# Altium integrated library Analog Devices Amplifiers and Linear Voltage References.IntLib: 547 symbols (part 16 of 20)
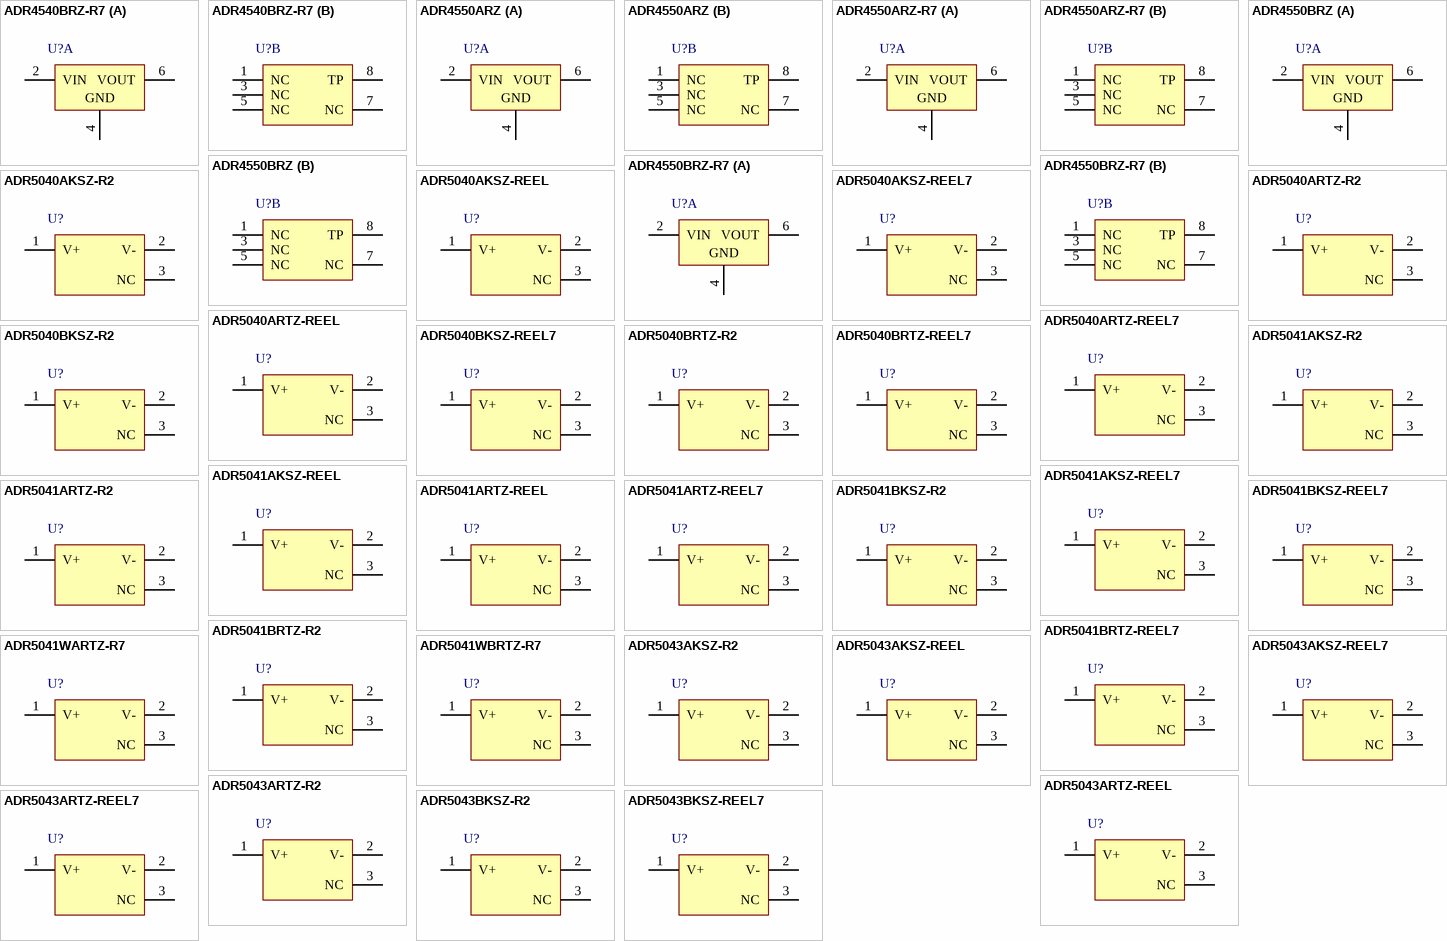
[diagram p35: symbols ADR4540BRZ-R7 to ADR5043BKSZ-REEL7]

## ADR5041BRTZ-REEL7
designator U?
Precision Micropower Shunt Mode Voltage Reference, 2.5 V Output, Industrial, 3-pin SOT23 (RT-3), Reel; Manufacturer: Analog Devices; PartNumber: ADR5041BRTZ-REEL7; DatasheetVersion: Rev. B; PackageVersion: 011909-C, 02/2009; PackageReference: RT-3; PackageDescription: 3-Pin Small Outline Transistor Package, Body 2.9 x 1.3 mm, Pitch 0.96 mm; Supplier 1: Digi-Key; Supplier Part Number 1: ADR5041BRTZ-REEL7-ND; Supplier 2: Mouser; Supplier Part Number 2: 584-ADR5041BRTZ-R7; Mounting Technology: Surface Mount; Code_JEDEC: TO-236-AB; ComponentLink1Description: Manufacturer URL; ComponentLink1URL: http://www.analog.com/en/index.html; ComponentLink2Description: Datasheet; ComponentLink2URL: http://www.analog.com/static/imported-files/data_sheets/ADR5040_5041_5043_5044_5045.pdf; ComponentLink3Description: Package Specification; ComponentLink3URL: http:/www.analog.com/static/imported-files/packages/PKG_PDF/SOT-23-3 (RT)/RT_3.pdf; ComponentLink4Description: URL Link1; ComponentLink4URL: Product URL:http://www.analog.com/en/special-linear-functions/voltage-references/adr5041/products/product.html
footprint ADI-RT-3_N (SOT23, 3-Leads, Body 2.9x1.3mm, Pitch 0.96mm, IPC Medium Density)
footprint ADI-RT-3_L (SOT23, 3-Leads, Body 2.9x1.3mm, Pitch 0.96mm, IPC High Density)
footprint ADI-RT-3_M (SOT23, 3-Leads, Body 2.9x1.3mm, Pitch 0.96mm, IPC Low Density)
pins: 1 V+ (power), 2 V- (power), 3 NC

## ADR5041WARTZ-R7
designator U?
Precision Micropower Shunt Mode Voltage Reference, 2.5 V Output, Automotive, 3-pin SOT23 (RT-3), Reel; Manufacturer: Analog Devices; PartNumber: ADR5041WARTZ-R7; DatasheetVersion: Rev. B; PackageVersion: 011909-C, 02/2009; PackageReference: RT-3; PackageDescription: 3-Pin Small Outline Transistor Package, Body 2.9 x 1.3 mm, Pitch 0.96 mm; Supplier 1: Digi-Key; Supplier Part Number 1: ADR5041WARTZ-R7TR-ND; Supplier 2: Digi-Key; Supplier Part Number 2: ADR5041WARTZ-R7CT-ND; Supplier 3: Digi-Key; Supplier Part Number 3: ADR5041WARTZ-R7DKR-ND; Supplier 4: Mouser; Supplier Part Number 4: 584-ADR5041WARTZ-R7; Mounting Technology: Surface Mount; Code_JEDEC: TO-236-AB; ComponentLink1Description: Manufacturer URL; ComponentLink1URL: http://www.analog.com/en/index.html; ComponentLink2Description: Datasheet; ComponentLink2URL: http://www.analog.com/static/imported-files/data_sheets/ADR5040_5041_5043_5044_5045.pdf; ComponentLink3Description: Package Specification; ComponentLink3URL: http:/www.analog.com/static/imported-files/packages/PKG_PDF/SOT-23-3 (RT)/RT_3.pdf; ComponentLink4Description: URL Link1; ComponentLink4URL: Product URL:http://www.analog.com/en/special-linear-functions/voltage-references/adr5041/products/product.html
footprint ADI-RT-3_N (SOT23, 3-Leads, Body 2.9x1.3mm, Pitch 0.96mm, IPC Medium Density)
footprint ADI-RT-3_L (SOT23, 3-Leads, Body 2.9x1.3mm, Pitch 0.96mm, IPC High Density)
footprint ADI-RT-3_M (SOT23, 3-Leads, Body 2.9x1.3mm, Pitch 0.96mm, IPC Low Density)
pins: 1 V+ (power), 2 V- (power), 3 NC

## ADR5041WBRTZ-R7
designator U?
Precision Micropower Shunt Mode Voltage Reference, 2.5 V Output, Automotive, 3-pin SOT23 (RT-3), Reel; Manufacturer: Analog Devices; PartNumber: ADR5041WBRTZ-R7; DatasheetVersion: Rev. B; PackageVersion: 011909-C, 02/2009; PackageReference: RT-3; PackageDescription: 3-Pin Small Outline Transistor Package, Body 2.9 x 1.3 mm, Pitch 0.96 mm; Supplier 1: Digi-Key; Supplier Part Number 1: ADR5041WBRTZ-R7TR-ND; Supplier 2: Digi-Key; Supplier Part Number 2: ADR5041WBRTZ-R7CT-ND; Supplier 3: Digi-Key; Supplier Part Number 3: ADR5041WBRTZ-R7DKR-ND; Supplier 4: Mouser; Supplier Part Number 4: 584-ADR5041WBRTZ-R7; Mounting Technology: Surface Mount; Code_JEDEC: TO-236-AB; ComponentLink1Description: Manufacturer URL; ComponentLink1URL: http://www.analog.com/en/index.html; ComponentLink2Description: Datasheet; ComponentLink2URL: http://www.analog.com/static/imported-files/data_sheets/ADR5040_5041_5043_5044_5045.pdf; ComponentLink3Description: Package Specification; ComponentLink3URL: http:/www.analog.com/static/imported-files/packages/PKG_PDF/SOT-23-3 (RT)/RT_3.pdf; ComponentLink4Description: URL Link1; ComponentLink4URL: Product URL:http://www.analog.com/en/special-linear-functions/voltage-references/adr5041/products/product.html
footprint ADI-RT-3_N (SOT23, 3-Leads, Body 2.9x1.3mm, Pitch 0.96mm, IPC Medium Density)
footprint ADI-RT-3_L (SOT23, 3-Leads, Body 2.9x1.3mm, Pitch 0.96mm, IPC High Density)
footprint ADI-RT-3_M (SOT23, 3-Leads, Body 2.9x1.3mm, Pitch 0.96mm, IPC Low Density)
pins: 1 V+ (power), 2 V- (power), 3 NC

## ADR5043AKSZ-R2
designator U?
Precision Micropower Shunt Mode Voltage Reference, 3 V Output, Industrial, 3-pin SOT23 (KS-3), Reel; Manufacturer: Analog Devices; PartNumber: ADR5043AKSZ-R2; DatasheetVersion: Rev. B; PackageVersion: 072809-A, 07/2009; PackageReference: KS-3; PackageDescription: 3-Pin Thin Shrink Small Outline Transistor Package, Body 2 x 1.25 mm, Pitch 0.65 mm; Supplier 1: Digi-Key; Supplier Part Number 1: ADR5043AKSZ-R2TR-ND; Supplier 2: Digi-Key; Supplier Part Number 2: ADR5043AKSZ-R2CT-ND; Supplier 3: Digi-Key; Supplier Part Number 3: ADR5043AKSZ-R2DKR-ND; Supplier 4: Mouser; Supplier Part Number 4: 584-ADR5043AKSZ-R2; Mounting Technology: Surface Mount; ComponentLink1Description: Manufacturer URL; ComponentLink1URL: http://www.analog.com/en/index.html; ComponentLink2Description: Datasheet; ComponentLink2URL: http://www.analog.com/static/imported-files/data_sheets/ADR5040_5041_5043_5044_5045.pdf; ComponentLink3Description: Package Specification; ComponentLink3URL: http:/www.analog.com/static/imported-files/packages/PKG_PDF/SC70(KS)/KS_3.pdf; ComponentLink4Description: URL Link1; ComponentLink4URL: Product URL:http://www.analog.com/en/special-linear-functions/voltage-references/adr5043/products/product.html
footprint ADI-KS-3_N (SOT23, 3-Leads, Body 2x1.25mm, Pitch 0.65mm, IPC Medium Density)
footprint ADI-KS-3_L (SOT23, 3-Leads, Body 2x1.25mm, Pitch 0.65mm, IPC High Density)
footprint ADI-KS-3_M (SOT23, 3-Leads, Body 2x1.25mm, Pitch 0.65mm, IPC Low Density)
pins: 1 V+ (power), 2 V- (power), 3 NC

## ADR5043AKSZ-REEL
designator U?
Precision Micropower Shunt Mode Voltage Reference, 3 V Output, Industrial, 3-pin SOT23 (KS-3), Reel; Manufacturer: Analog Devices; PartNumber: ADR5043AKSZ-REEL; DatasheetVersion: Rev. B; PackageVersion: 072809-A, 07/2009; PackageReference: KS-3; PackageDescription: 3-Pin Thin Shrink Small Outline Transistor Package, Body 2 x 1.25 mm, Pitch 0.65 mm; Supplier 1: Digi-Key; Supplier Part Number 1: ADR5043AKSZ-REEL-ND; Supplier 2: Mouser; Supplier Part Number 2: 584-ADR5043AKSZ-R; Mounting Technology: Surface Mount; ComponentLink1Description: Manufacturer URL; ComponentLink1URL: http://www.analog.com/en/index.html; ComponentLink2Description: Datasheet; ComponentLink2URL: http://www.analog.com/static/imported-files/data_sheets/ADR5040_5041_5043_5044_5045.pdf; ComponentLink3Description: Package Specification; ComponentLink3URL: http:/www.analog.com/static/imported-files/packages/PKG_PDF/SC70(KS)/KS_3.pdf; ComponentLink4Description: URL Link1; ComponentLink4URL: Product URL:http://www.analog.com/en/special-linear-functions/voltage-references/adr5043/products/product.html
footprint ADI-KS-3_N (SOT23, 3-Leads, Body 2x1.25mm, Pitch 0.65mm, IPC Medium Density)
footprint ADI-KS-3_L (SOT23, 3-Leads, Body 2x1.25mm, Pitch 0.65mm, IPC High Density)
footprint ADI-KS-3_M (SOT23, 3-Leads, Body 2x1.25mm, Pitch 0.65mm, IPC Low Density)
pins: 1 V+ (power), 2 V- (power), 3 NC

## ADR5043AKSZ-REEL7
designator U?
Precision Micropower Shunt Mode Voltage Reference, 3 V Output, Industrial, 3-pin SOT23 (KS-3), Reel; Manufacturer: Analog Devices; PartNumber: ADR5043AKSZ-REEL7; DatasheetVersion: Rev. B; PackageVersion: 072809-A, 07/2009; PackageReference: KS-3; PackageDescription: 3-Pin Thin Shrink Small Outline Transistor Package, Body 2 x 1.25 mm, Pitch 0.65 mm; Supplier 1: Digi-Key; Supplier Part Number 1: ADR5043AKSZ-REEL7-ND; Supplier 2: Mouser; Supplier Part Number 2: 584-ADR5043AKSZ-R7; Mounting Technology: Surface Mount; ComponentLink1Description: Manufacturer URL; ComponentLink1URL: http://www.analog.com/en/index.html; ComponentLink2Description: Datasheet; ComponentLink2URL: http://www.analog.com/static/imported-files/data_sheets/ADR5040_5041_5043_5044_5045.pdf; ComponentLink3Description: Package Specification; ComponentLink3URL: http:/www.analog.com/static/imported-files/packages/PKG_PDF/SC70(KS)/KS_3.pdf; ComponentLink4Description: URL Link1; ComponentLink4URL: Product URL:http://www.analog.com/en/special-linear-functions/voltage-references/adr5043/products/product.html
footprint ADI-KS-3_N (SOT23, 3-Leads, Body 2x1.25mm, Pitch 0.65mm, IPC Medium Density)
footprint ADI-KS-3_L (SOT23, 3-Leads, Body 2x1.25mm, Pitch 0.65mm, IPC High Density)
footprint ADI-KS-3_M (SOT23, 3-Leads, Body 2x1.25mm, Pitch 0.65mm, IPC Low Density)
pins: 1 V+ (power), 2 V- (power), 3 NC

## ADR5043ARTZ-R2
designator U?
Precision Micropower Shunt Mode Voltage Reference, 3 V Output, Industrial, 3-pin SOT23 (RT-3), Reel; Manufacturer: Analog Devices; PartNumber: ADR5043ARTZ-R2; Ref Out TC (ppm/C): 10; Vout: 3V; DatasheetVersion: Rev. B; PackageVersion: 011909-C, 02/2009; PackageReference: RT-3; PackageDescription: 3-Pin Small Outline Transistor Package, Body 2.9 x 1.3 mm, Pitch 0.96 mm; Supplier 1: Digi-Key; Supplier Part Number 1: ADR5043ARTZ-R2TR-ND; Supplier 2: Digi-Key; Supplier Part Number 2: ADR5043ARTZ-R2CT-ND; Supplier 3: Digi-Key; Supplier Part Number 3: ADR5043ARTZ-R2DKR-ND; Supplier 4: Newark; Supplier Part Number 4: 34M4892; Supplier 5: Mouser; Supplier Part Number 5: 584-ADR5043ARTZ-R2; Packing: Reel; Operating Temp Range: -40 to 125 degC; Mounting Technology: Surface Mount; Code_JEDEC: TO-236-AB; ComponentLink1Description: Manufacturer URL; ComponentLink1URL: http://www.analog.com/en/index.html; ComponentLink2Description: Datasheet; ComponentLink2URL: http://www.analog.com/static/imported-files/data_sheets/ADR5040_5041_5043_5044_5045.pdf; ComponentLink3Description: Package Specification; ComponentLink3URL: http:/www.analog.com/static/imported-files/packages/PKG_PDF/SOT-23-3 (RT)/RT_3.pdf; ComponentLink4Description: URL Link1; ComponentLink4URL: Product URL:http://www.analog.com/en/special-linear-functions/voltage-references/adr5043/products/product.html
footprint ADI-RT-3_N (SOT23, 3-Leads, Body 2.9x1.3mm, Pitch 0.96mm, IPC Medium Density)
footprint ADI-RT-3_L (SOT23, 3-Leads, Body 2.9x1.3mm, Pitch 0.96mm, IPC High Density)
footprint ADI-RT-3_M (SOT23, 3-Leads, Body 2.9x1.3mm, Pitch 0.96mm, IPC Low Density)
pins: 1 V+ (power), 2 V- (power), 3 NC

## ADR5043ARTZ-REEL
designator U?
Precision Micropower Shunt Mode Voltage Reference, 3 V Output, Industrial, 3-pin SOT23 (RT-3), Reel; Manufacturer: Analog Devices; PartNumber: ADR5043ARTZ-REEL; Ref Out TC (ppm/C): 10; Vout: 3V; DatasheetVersion: Rev. B; PackageVersion: 011909-C, 02/2009; PackageReference: RT-3; PackageDescription: 3-Pin Small Outline Transistor Package, Body 2.9 x 1.3 mm, Pitch 0.96 mm; Supplier 1: Digi-Key; Supplier Part Number 1: ADR5043ARTZ-REEL-ND; Supplier 2: Mouser; Supplier Part Number 2: 584-ADR5043ARTZ-R; Packing: Reel; Operating Temp Range: -40 to 125 degC; Mounting Technology: Surface Mount; Code_JEDEC: TO-236-AB; ComponentLink1Description: Manufacturer URL; ComponentLink1URL: http://www.analog.com/en/index.html; ComponentLink2Description: Datasheet; ComponentLink2URL: http://www.analog.com/static/imported-files/data_sheets/ADR5040_5041_5043_5044_5045.pdf; ComponentLink3Description: Package Specification; ComponentLink3URL: http:/www.analog.com/static/imported-files/packages/PKG_PDF/SOT-23-3 (RT)/RT_3.pdf; ComponentLink4Description: URL Link1; ComponentLink4URL: Product URL:http://www.analog.com/en/special-linear-functions/voltage-references/adr5043/products/product.html
footprint ADI-RT-3_N (SOT23, 3-Leads, Body 2.9x1.3mm, Pitch 0.96mm, IPC Medium Density)
footprint ADI-RT-3_L (SOT23, 3-Leads, Body 2.9x1.3mm, Pitch 0.96mm, IPC High Density)
footprint ADI-RT-3_M (SOT23, 3-Leads, Body 2.9x1.3mm, Pitch 0.96mm, IPC Low Density)
pins: 1 V+ (power), 2 V- (power), 3 NC

## ADR5043ARTZ-REEL7
designator U?
Precision Micropower Shunt Mode Voltage Reference, 3 V Output, Industrial, 3-pin SOT23 (RT-3), Reel; Manufacturer: Analog Devices; PartNumber: ADR5043ARTZ-REEL7; Ref Out TC (ppm/C): 10; Vout: 3V; DatasheetVersion: Rev. B; PackageVersion: 011909-C, 02/2009; PackageReference: RT-3; PackageDescription: 3-Pin Small Outline Transistor Package, Body 2.9 x 1.3 mm, Pitch 0.96 mm; Supplier 1: Digi-Key; Supplier Part Number 1: ADR5043ARTZ-REEL7-ND; Supplier 2: Newark; Supplier Part Number 2: 34M4891; Supplier 3: Mouser; Supplier Part Number 3: 584-ADR5043ARTZ-R7; Packing: Reel; Operating Temp Range: -40 to 125 degC; Mounting Technology: Surface Mount; Code_JEDEC: TO-236-AB; ComponentLink1Description: Manufacturer URL; ComponentLink1URL: http://www.analog.com/en/index.html; ComponentLink2Description: Datasheet; ComponentLink2URL: http://www.analog.com/static/imported-files/data_sheets/ADR5040_5041_5043_5044_5045.pdf; ComponentLink3Description: Package Specification; ComponentLink3URL: http:/www.analog.com/static/imported-files/packages/PKG_PDF/SOT-23-3 (RT)/RT_3.pdf; ComponentLink4Description: URL Link1; ComponentLink4URL: Product URL:http://www.analog.com/en/special-linear-functions/voltage-references/adr5043/products/product.html
footprint ADI-RT-3_N (SOT23, 3-Leads, Body 2.9x1.3mm, Pitch 0.96mm, IPC Medium Density)
footprint ADI-RT-3_L (SOT23, 3-Leads, Body 2.9x1.3mm, Pitch 0.96mm, IPC High Density)
footprint ADI-RT-3_M (SOT23, 3-Leads, Body 2.9x1.3mm, Pitch 0.96mm, IPC Low Density)
pins: 1 V+ (power), 2 V- (power), 3 NC

## ADR5043BKSZ-R2
designator U?
Precision Micropower Shunt Mode Voltage Reference, 3 V Output, Industrial, 3-pin SOT23 (KS-3), Reel; Manufacturer: Analog Devices; PartNumber: ADR5043BKSZ-R2; Ref Out TC (ppm/C): 10; Vout: 3V; DatasheetVersion: Rev. B; PackageVersion: 072809-A, 07/2009; PackageReference: KS-3; PackageDescription: 3-Pin Thin Shrink Small Outline Transistor Package, Body 2 x 1.25 mm, Pitch 0.65 mm; Supplier 1: Digi-Key; Supplier Part Number 1: ADR5043BKSZ-R2TR-ND; Supplier 2: Digi-Key; Supplier Part Number 2: ADR5043BKSZ-R2CT-ND; Supplier 3: Digi-Key; Supplier Part Number 3: ADR5043BKSZ-R2DKR-ND; Supplier 4: Newark; Supplier Part Number 4: 34M4894; Supplier 5: Mouser; Supplier Part Number 5: 584-ADR5043BKSZ-R2; Packing: Reel; Operating Temp Range: -40 to 125 degC; Mounting Technology: Surface Mount; ComponentLink1Description: Manufacturer URL; ComponentLink1URL: http://www.analog.com/en/index.html; ComponentLink2Description: Datasheet; ComponentLink2URL: http://www.analog.com/static/imported-files/data_sheets/ADR5040_5041_5043_5044_5045.pdf; ComponentLink3Description: Package Specification; ComponentLink3URL: http:/www.analog.com/static/imported-files/packages/PKG_PDF/SC70(KS)/KS_3.pdf; ComponentLink4Description: URL Link1; ComponentLink4URL: Product URL:http://www.analog.com/en/special-linear-functions/voltage-references/adr5043/products/product.html
footprint ADI-KS-3_N (SOT23, 3-Leads, Body 2x1.25mm, Pitch 0.65mm, IPC Medium Density)
footprint ADI-KS-3_L (SOT23, 3-Leads, Body 2x1.25mm, Pitch 0.65mm, IPC High Density)
footprint ADI-KS-3_M (SOT23, 3-Leads, Body 2x1.25mm, Pitch 0.65mm, IPC Low Density)
pins: 1 V+ (power), 2 V- (power), 3 NC

## ADR5043BKSZ-REEL7
designator U?
Precision Micropower Shunt Mode Voltage Reference, 3 V Output, Industrial, 3-pin SOT23 (KS-3), Reel; Manufacturer: Analog Devices; PartNumber: ADR5043BKSZ-REEL7; Ref Out TC (ppm/C): 10; Vout: 3V; DatasheetVersion: Rev. B; PackageVersion: 072809-A, 07/2009; PackageReference: KS-3; PackageDescription: 3-Pin Thin Shrink Small Outline Transistor Package, Body 2 x 1.25 mm, Pitch 0.65 mm; Supplier 1: Digi-Key; Supplier Part Number 1: ADR5043BKSZ-REEL7-ND; Supplier 2: Newark; Supplier Part Number 2: 34M4893; Supplier 3: Mouser; Supplier Part Number 3: 584-ADR5043BKSZ-R7; Packing: Reel; Operating Temp Range: -40 to 125 degC; Mounting Technology: Surface Mount; ComponentLink1Description: Manufacturer URL; ComponentLink1URL: http://www.analog.com/en/index.html; ComponentLink2Description: Datasheet; ComponentLink2URL: http://www.analog.com/static/imported-files/data_sheets/ADR5040_5041_5043_5044_5045.pdf; ComponentLink3Description: Package Specification; ComponentLink3URL: http:/www.analog.com/static/imported-files/packages/PKG_PDF/SC70(KS)/KS_3.pdf; ComponentLink4Description: URL Link1; ComponentLink4URL: Product URL:http://www.analog.com/en/special-linear-functions/voltage-references/adr5043/products/product.html
footprint ADI-KS-3_N (SOT23, 3-Leads, Body 2x1.25mm, Pitch 0.65mm, IPC Medium Density)
footprint ADI-KS-3_L (SOT23, 3-Leads, Body 2x1.25mm, Pitch 0.65mm, IPC High Density)
footprint ADI-KS-3_M (SOT23, 3-Leads, Body 2x1.25mm, Pitch 0.65mm, IPC Low Density)
pins: 1 V+ (power), 2 V- (power), 3 NC

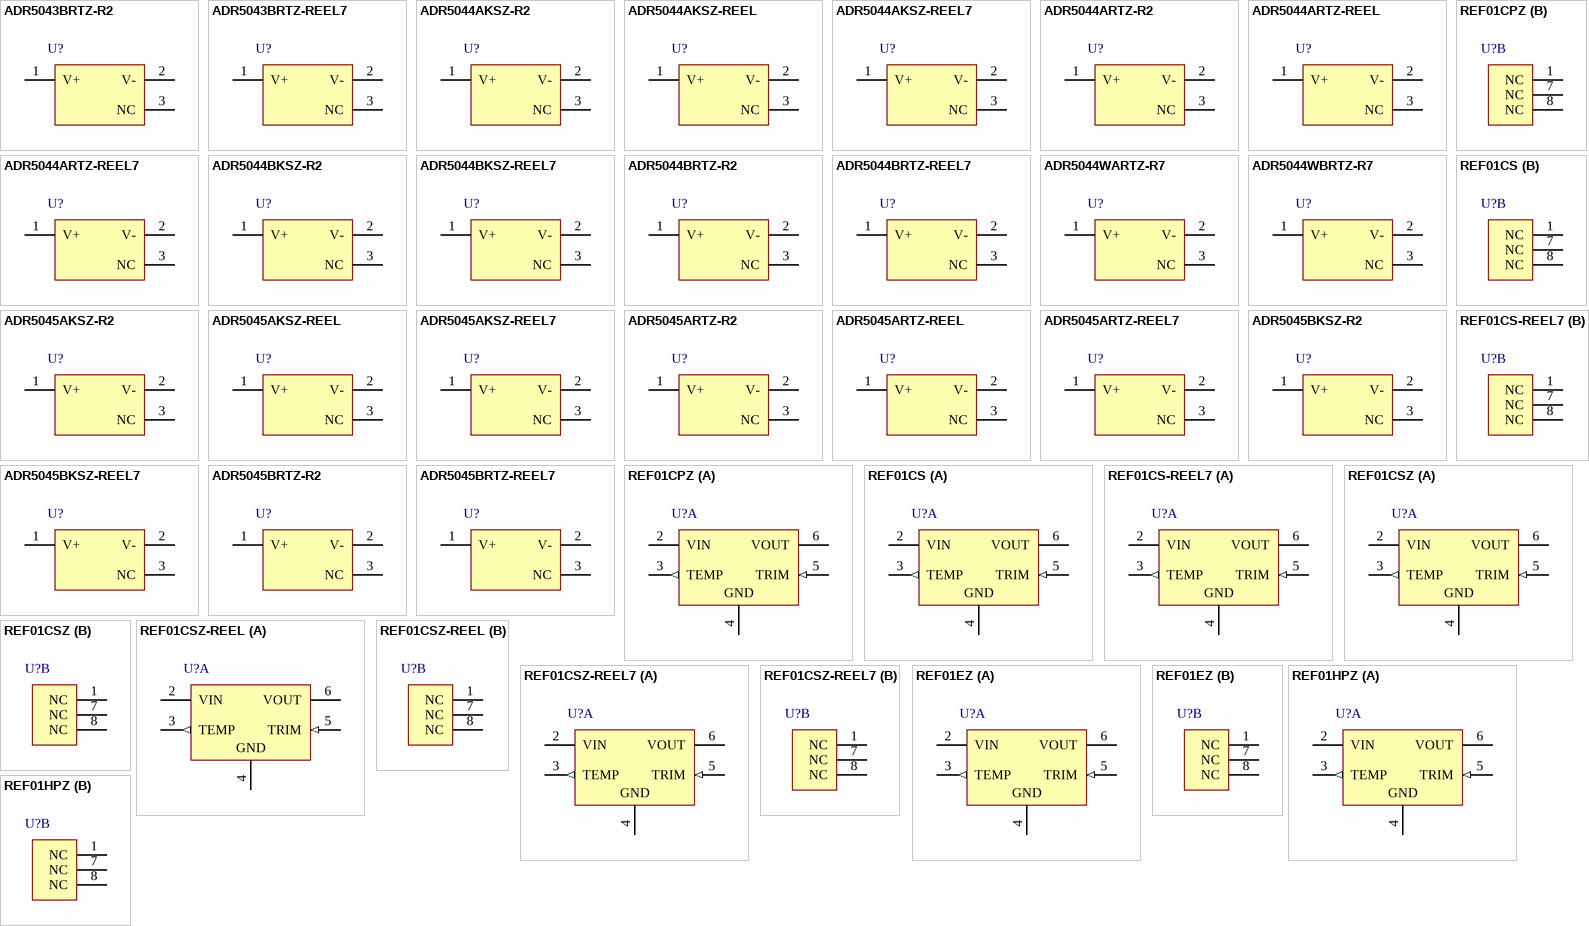
[diagram p17: symbols ADR5043BRTZ-R2 to REF01HPZ]

## ADR5043BRTZ-R2
designator U?
Precision Micropower Shunt Mode Voltage Reference, 3 V Output, Industrial, 3-pin SOT23 (RT-3), Reel; Manufacturer: Analog Devices; PartNumber: ADR5043BRTZ-R2; Ref Out TC (ppm/C): 10; Vout: 3V; DatasheetVersion: Rev. B; PackageVersion: 011909-C, 02/2009; PackageReference: RT-3; PackageDescription: 3-Pin Small Outline Transistor Package, Body 2.9 x 1.3 mm, Pitch 0.96 mm; Supplier 1: Digi-Key; Supplier Part Number 1: ADR5043BRTZ-R2TR-ND; Supplier 2: Digi-Key; Supplier Part Number 2: ADR5043BRTZ-R2CT-ND; Supplier 3: Digi-Key; Supplier Part Number 3: ADR5043BRTZ-R2DKR-ND; Supplier 4: Newark; Supplier Part Number 4: 34M4896; Supplier 5: Mouser; Supplier Part Number 5: 584-ADR5043BRTZ-R2; Packing: Reel; Operating Temp Range: -40 to 125 degC; Mounting Technology: Surface Mount; Code_JEDEC: TO-236-AB; ComponentLink1Description: Manufacturer URL; ComponentLink1URL: http://www.analog.com/en/index.html; ComponentLink2Description: Datasheet; ComponentLink2URL: http://www.analog.com/static/imported-files/data_sheets/ADR5040_5041_5043_5044_5045.pdf; ComponentLink3Description: Package Specification; ComponentLink3URL: http:/www.analog.com/static/imported-files/packages/PKG_PDF/SOT-23-3 (RT)/RT_3.pdf; ComponentLink4Description: URL Link1; ComponentLink4URL: Product URL:http://www.analog.com/en/special-linear-functions/voltage-references/adr5043/products/product.html
footprint ADI-RT-3_N (SOT23, 3-Leads, Body 2.9x1.3mm, Pitch 0.96mm, IPC Medium Density)
footprint ADI-RT-3_L (SOT23, 3-Leads, Body 2.9x1.3mm, Pitch 0.96mm, IPC High Density)
footprint ADI-RT-3_M (SOT23, 3-Leads, Body 2.9x1.3mm, Pitch 0.96mm, IPC Low Density)
pins: 1 V+ (power), 2 V- (power), 3 NC

## ADR5043BRTZ-REEL7
designator U?
Precision Micropower Shunt Mode Voltage Reference, 3 V Output, Industrial, 3-pin SOT23 (RT-3), Reel; Manufacturer: Analog Devices; PartNumber: ADR5043BRTZ-REEL7; Ref Out TC (ppm/C): 10; Vout: 3V; DatasheetVersion: Rev. B; PackageVersion: 011909-C, 02/2009; PackageReference: RT-3; PackageDescription: 3-Pin Small Outline Transistor Package, Body 2.9 x 1.3 mm, Pitch 0.96 mm; Supplier 1: Digi-Key; Supplier Part Number 1: ADR5043BRTZ-REEL7-ND; Supplier 2: Mouser; Supplier Part Number 2: 584-ADR5043BRTZ-R7; Packing: Reel; Operating Temp Range: -40 to 125 degC; Mounting Technology: Surface Mount; Code_JEDEC: TO-236-AB; ComponentLink1Description: Manufacturer URL; ComponentLink1URL: http://www.analog.com/en/index.html; ComponentLink2Description: Datasheet; ComponentLink2URL: http://www.analog.com/static/imported-files/data_sheets/ADR5040_5041_5043_5044_5045.pdf; ComponentLink3Description: Package Specification; ComponentLink3URL: http:/www.analog.com/static/imported-files/packages/PKG_PDF/SOT-23-3 (RT)/RT_3.pdf; ComponentLink4Description: URL Link1; ComponentLink4URL: Product URL:http://www.analog.com/en/special-linear-functions/voltage-references/adr5043/products/product.html
footprint ADI-RT-3_N (SOT23, 3-Leads, Body 2.9x1.3mm, Pitch 0.96mm, IPC Medium Density)
footprint ADI-RT-3_L (SOT23, 3-Leads, Body 2.9x1.3mm, Pitch 0.96mm, IPC High Density)
footprint ADI-RT-3_M (SOT23, 3-Leads, Body 2.9x1.3mm, Pitch 0.96mm, IPC Low Density)
pins: 1 V+ (power), 2 V- (power), 3 NC

## ADR5044AKSZ-R2
designator U?
Precision Micropower Shunt Mode Voltage Reference, 4.096 V Output, Industrial, 3-pin SOT23 (KS-3), Reel; Manufacturer: Analog Devices; PartNumber: ADR5044AKSZ-R2; Ref Out TC (ppm/C): 10; Vout: 4.096V; DatasheetVersion: Rev. B; PackageVersion: 072809-A, 07/2009; PackageReference: KS-3; PackageDescription: 3-Pin Thin Shrink Small Outline Transistor Package, Body 2 x 1.25 mm, Pitch 0.65 mm; Supplier 1: Digi-Key; Supplier Part Number 1: ADR5044AKSZ-R2TR-ND; Supplier 2: Digi-Key; Supplier Part Number 2: ADR5044AKSZ-R2CT-ND; Supplier 3: Digi-Key; Supplier Part Number 3: ADR5044AKSZ-R2DKR-ND; Supplier 4: Mouser; Supplier Part Number 4: 584-ADR5044AKSZ-R2; Packing: Reel; Operating Temp Range: -40 to 125 degC; Mounting Technology: Surface Mount; ComponentLink1Description: Manufacturer URL; ComponentLink1URL: http://www.analog.com/en/index.html; ComponentLink2Description: Datasheet; ComponentLink2URL: http://www.analog.com/static/imported-files/data_sheets/ADR5040_5041_5043_5044_5045.pdf; ComponentLink3Description: Package Specification; ComponentLink3URL: http:/www.analog.com/static/imported-files/packages/PKG_PDF/SC70(KS)/KS_3.pdf; ComponentLink4Description: URL Link1; ComponentLink4URL: Product URL:http://www.analog.com/en/special-linear-functions/voltage-references/adr5044/products/product.html
footprint ADI-KS-3_N (SOT23, 3-Leads, Body 2x1.25mm, Pitch 0.65mm, IPC Medium Density)
footprint ADI-KS-3_L (SOT23, 3-Leads, Body 2x1.25mm, Pitch 0.65mm, IPC High Density)
footprint ADI-KS-3_M (SOT23, 3-Leads, Body 2x1.25mm, Pitch 0.65mm, IPC Low Density)
pins: 1 V+ (power), 2 V- (power), 3 NC

## ADR5044AKSZ-REEL
designator U?
Precision Micropower Shunt Mode Voltage Reference, 4.096 V Output, Industrial, 3-pin SOT23 (KS-3), Reel; Manufacturer: Analog Devices; PartNumber: ADR5044AKSZ-REEL; Ref Out TC (ppm/C): 10; Vout: 4.096V; DatasheetVersion: Rev. B; PackageVersion: 072809-A, 07/2009; PackageReference: KS-3; PackageDescription: 3-Pin Thin Shrink Small Outline Transistor Package, Body 2 x 1.25 mm, Pitch 0.65 mm; Supplier 1: Digi-Key; Supplier Part Number 1: ADR5044AKSZ-REEL-ND; Supplier 2: Mouser; Supplier Part Number 2: 584-ADR5044AKSZ-R; Packing: Reel; Operating Temp Range: -40 to 125 degC; Mounting Technology: Surface Mount; ComponentLink1Description: Manufacturer URL; ComponentLink1URL: http://www.analog.com/en/index.html; ComponentLink2Description: Datasheet; ComponentLink2URL: http://www.analog.com/static/imported-files/data_sheets/ADR5040_5041_5043_5044_5045.pdf; ComponentLink3Description: Package Specification; ComponentLink3URL: http:/www.analog.com/static/imported-files/packages/PKG_PDF/SC70(KS)/KS_3.pdf; ComponentLink4Description: URL Link1; ComponentLink4URL: Product URL:http://www.analog.com/en/special-linear-functions/voltage-references/adr5044/products/product.html
footprint ADI-KS-3_N (SOT23, 3-Leads, Body 2x1.25mm, Pitch 0.65mm, IPC Medium Density)
footprint ADI-KS-3_L (SOT23, 3-Leads, Body 2x1.25mm, Pitch 0.65mm, IPC High Density)
footprint ADI-KS-3_M (SOT23, 3-Leads, Body 2x1.25mm, Pitch 0.65mm, IPC Low Density)
pins: 1 V+ (power), 2 V- (power), 3 NC

## ADR5044AKSZ-REEL7
designator U?
Precision Micropower Shunt Mode Voltage Reference, 4.096 V Output, Industrial, 3-pin SOT23 (KS-3), Reel; Manufacturer: Analog Devices; PartNumber: ADR5044AKSZ-REEL7; Ref Out TC (ppm/C): 10; Vout: 4.096V; DatasheetVersion: Rev. B; PackageVersion: 072809-A, 07/2009; PackageReference: KS-3; PackageDescription: 3-Pin Thin Shrink Small Outline Transistor Package, Body 2 x 1.25 mm, Pitch 0.65 mm; Supplier 1: Digi-Key; Supplier Part Number 1: ADR5044AKSZ-REEL7-ND; Supplier 2: Mouser; Supplier Part Number 2: 584-ADR5044AKSZ-R7; Packing: Reel; Operating Temp Range: -40 to 125 degC; Mounting Technology: Surface Mount; ComponentLink1Description: Manufacturer URL; ComponentLink1URL: http://www.analog.com/en/index.html; ComponentLink2Description: Datasheet; ComponentLink2URL: http://www.analog.com/static/imported-files/data_sheets/ADR5040_5041_5043_5044_5045.pdf; ComponentLink3Description: Package Specification; ComponentLink3URL: http:/www.analog.com/static/imported-files/packages/PKG_PDF/SC70(KS)/KS_3.pdf; ComponentLink4Description: URL Link1; ComponentLink4URL: Product URL:http://www.analog.com/en/special-linear-functions/voltage-references/adr5044/products/product.html
footprint ADI-KS-3_N (SOT23, 3-Leads, Body 2x1.25mm, Pitch 0.65mm, IPC Medium Density)
footprint ADI-KS-3_L (SOT23, 3-Leads, Body 2x1.25mm, Pitch 0.65mm, IPC High Density)
footprint ADI-KS-3_M (SOT23, 3-Leads, Body 2x1.25mm, Pitch 0.65mm, IPC Low Density)
pins: 1 V+ (power), 2 V- (power), 3 NC

## ADR5044ARTZ-R2
designator U?
Precision Micropower Shunt Mode Voltage Reference, 4.096 V Output, Industrial, 3-pin SOT23 (RT-3), Reel; Manufacturer: Analog Devices; PartNumber: ADR5044ARTZ-R2; Ref Out TC (ppm/C): 10; Vout: 4.096V; DatasheetVersion: Rev. B; PackageVersion: 011909-C, 02/2009; PackageReference: RT-3; PackageDescription: 3-Pin Small Outline Transistor Package, Body 2.9 x 1.3 mm, Pitch 0.96 mm; Supplier 1: Digi-Key; Supplier Part Number 1: ADR5044ARTZ-R2-ND; Supplier 2: Newark; Supplier Part Number 2: 34M4902; Supplier 3: Mouser; Supplier Part Number 3: 584-ADR5044ARTZ-R2; Packing: Reel; Operating Temp Range: -40 to 125 degC; Mounting Technology: Surface Mount; Code_JEDEC: TO-236-AB; ComponentLink1Description: Manufacturer URL; ComponentLink1URL: http://www.analog.com/en/index.html; ComponentLink2Description: Datasheet; ComponentLink2URL: http://www.analog.com/static/imported-files/data_sheets/ADR5040_5041_5043_5044_5045.pdf; ComponentLink3Description: Package Specification; ComponentLink3URL: http:/www.analog.com/static/imported-files/packages/PKG_PDF/SOT-23-3 (RT)/RT_3.pdf; ComponentLink4Description: URL Link1; ComponentLink4URL: Product URL:http://www.analog.com/en/special-linear-functions/voltage-references/adr5044/products/product.html
footprint ADI-RT-3_N (SOT23, 3-Leads, Body 2.9x1.3mm, Pitch 0.96mm, IPC Medium Density)
footprint ADI-RT-3_L (SOT23, 3-Leads, Body 2.9x1.3mm, Pitch 0.96mm, IPC High Density)
footprint ADI-RT-3_M (SOT23, 3-Leads, Body 2.9x1.3mm, Pitch 0.96mm, IPC Low Density)
pins: 1 V+ (power), 2 V- (power), 3 NC

## ADR5044ARTZ-REEL
designator U?
Precision Micropower Shunt Mode Voltage Reference, 4.096 V Output, Industrial, 3-pin SOT23 (RT-3), Reel; Manufacturer: Analog Devices; PartNumber: ADR5044ARTZ-REEL; Ref Out TC (ppm/C): 10; Vout: 4.096V; DatasheetVersion: Rev. B; PackageVersion: 011909-C, 02/2009; PackageReference: RT-3; PackageDescription: 3-Pin Small Outline Transistor Package, Body 2.9 x 1.3 mm, Pitch 0.96 mm; Supplier 1: Digi-Key; Supplier Part Number 1: ADR5044ARTZ-REEL-ND; Supplier 2: Mouser; Supplier Part Number 2: 584-ADR5044ARTZ-R; Packing: Reel; Operating Temp Range: -40 to 125 degC; Mounting Technology: Surface Mount; Code_JEDEC: TO-236-AB; ComponentLink1Description: Manufacturer URL; ComponentLink1URL: http://www.analog.com/en/index.html; ComponentLink2Description: Datasheet; ComponentLink2URL: http://www.analog.com/static/imported-files/data_sheets/ADR5040_5041_5043_5044_5045.pdf; ComponentLink3Description: Package Specification; ComponentLink3URL: http:/www.analog.com/static/imported-files/packages/PKG_PDF/SOT-23-3 (RT)/RT_3.pdf; ComponentLink4Description: URL Link1; ComponentLink4URL: Product URL:http://www.analog.com/en/special-linear-functions/voltage-references/adr5044/products/product.html
footprint ADI-RT-3_N (SOT23, 3-Leads, Body 2.9x1.3mm, Pitch 0.96mm, IPC Medium Density)
footprint ADI-RT-3_L (SOT23, 3-Leads, Body 2.9x1.3mm, Pitch 0.96mm, IPC High Density)
footprint ADI-RT-3_M (SOT23, 3-Leads, Body 2.9x1.3mm, Pitch 0.96mm, IPC Low Density)
pins: 1 V+ (power), 2 V- (power), 3 NC

## ADR5044ARTZ-REEL7
designator U?
Precision Micropower Shunt Mode Voltage Reference, 4.096 V Output, Industrial, 3-pin SOT23 (RT-3), Reel; Manufacturer: Analog Devices; PartNumber: ADR5044ARTZ-REEL7; Ref Out TC (ppm/C): 10; Vout: 4.096V; DatasheetVersion: Rev. B; PackageVersion: 011909-C, 02/2009; PackageReference: RT-3; PackageDescription: 3-Pin Small Outline Transistor Package, Body 2.9 x 1.3 mm, Pitch 0.96 mm; Supplier 1: Digi-Key; Supplier Part Number 1: ADR5044ARTZ-REEL7TR-ND; Supplier 2: Digi-Key; Supplier Part Number 2: ADR5044ARTZ-REEL7CT-ND; Supplier 3: Digi-Key; Supplier Part Number 3: ADR5044ARTZ-REEL7DKR-ND; Supplier 4: Newark; Supplier Part Number 4: 34M4901; Supplier 5: Mouser; Supplier Part Number 5: 584-ADR5044ARTZ-R7; Packing: Reel; Operating Temp Range: -40 to 125 degC; Mounting Technology: Surface Mount; Code_JEDEC: TO-236-AB; ComponentLink1Description: Manufacturer URL; ComponentLink1URL: http://www.analog.com/en/index.html; ComponentLink2Description: Datasheet; ComponentLink2URL: http://www.analog.com/static/imported-files/data_sheets/ADR5040_5041_5043_5044_5045.pdf; ComponentLink3Description: Package Specification; ComponentLink3URL: http:/www.analog.com/static/imported-files/packages/PKG_PDF/SOT-23-3 (RT)/RT_3.pdf; ComponentLink4Description: URL Link1; ComponentLink4URL: Product URL:http://www.analog.com/en/special-linear-functions/voltage-references/adr5044/products/product.html
footprint ADI-RT-3_N (SOT23, 3-Leads, Body 2.9x1.3mm, Pitch 0.96mm, IPC Medium Density)
footprint ADI-RT-3_L (SOT23, 3-Leads, Body 2.9x1.3mm, Pitch 0.96mm, IPC High Density)
footprint ADI-RT-3_M (SOT23, 3-Leads, Body 2.9x1.3mm, Pitch 0.96mm, IPC Low Density)
pins: 1 V+ (power), 2 V- (power), 3 NC

## ADR5044BKSZ-R2
designator U?
Precision Micropower Shunt Mode Voltage Reference, 4.096 V Output, Industrial, 3-pin SOT23 (KS-3), Reel; Manufacturer: Analog Devices; PartNumber: ADR5044BKSZ-R2; Ref Out TC (ppm/C): 10; Vout: 4.096V; DatasheetVersion: Rev. B; PackageVersion: 072809-A, 07/2009; PackageReference: KS-3; PackageDescription: 3-Pin Thin Shrink Small Outline Transistor Package, Body 2 x 1.25 mm, Pitch 0.65 mm; Supplier 1: Digi-Key; Supplier Part Number 1: ADR5044BKSZ-R2TR-ND; Supplier 2: Digi-Key; Supplier Part Number 2: ADR5044BKSZ-R2CT-ND; Supplier 3: Digi-Key; Supplier Part Number 3: ADR5044BKSZ-R2DKR-ND; Supplier 4: Mouser; Supplier Part Number 4: 584-ADR5044BKSZ-R2; Packing: Reel; Operating Temp Range: -40 to 125 degC; Mounting Technology: Surface Mount; ComponentLink1Description: Manufacturer URL; ComponentLink1URL: http://www.analog.com/en/index.html; ComponentLink2Description: Datasheet; ComponentLink2URL: http://www.analog.com/static/imported-files/data_sheets/ADR5040_5041_5043_5044_5045.pdf; ComponentLink3Description: Package Specification; ComponentLink3URL: http:/www.analog.com/static/imported-files/packages/PKG_PDF/SC70(KS)/KS_3.pdf; ComponentLink4Description: URL Link1; ComponentLink4URL: Product URL:http://www.analog.com/en/special-linear-functions/voltage-references/adr5044/products/product.html
footprint ADI-KS-3_N (SOT23, 3-Leads, Body 2x1.25mm, Pitch 0.65mm, IPC Medium Density)
footprint ADI-KS-3_L (SOT23, 3-Leads, Body 2x1.25mm, Pitch 0.65mm, IPC High Density)
footprint ADI-KS-3_M (SOT23, 3-Leads, Body 2x1.25mm, Pitch 0.65mm, IPC Low Density)
pins: 1 V+ (power), 2 V- (power), 3 NC

## ADR5044BKSZ-REEL7
designator U?
Precision Micropower Shunt Mode Voltage Reference, 4.096 V Output, Industrial, 3-pin SOT23 (KS-3), Reel; Manufacturer: Analog Devices; PartNumber: ADR5044BKSZ-REEL7; Ref Out TC (ppm/C): 10; Vout: 4.096V; DatasheetVersion: Rev. B; PackageVersion: 072809-A, 07/2009; PackageReference: KS-3; PackageDescription: 3-Pin Thin Shrink Small Outline Transistor Package, Body 2 x 1.25 mm, Pitch 0.65 mm; Supplier 1: Digi-Key; Supplier Part Number 1: ADR5044BKSZ-REEL7-ND; Supplier 2: Mouser; Supplier Part Number 2: 584-ADR5044BKSZ-R7; Packing: Reel; Operating Temp Range: -40 to 125 degC; Mounting Technology: Surface Mount; ComponentLink1Description: Manufacturer URL; ComponentLink1URL: http://www.analog.com/en/index.html; ComponentLink2Description: Datasheet; ComponentLink2URL: http://www.analog.com/static/imported-files/data_sheets/ADR5040_5041_5043_5044_5045.pdf; ComponentLink3Description: Package Specification; ComponentLink3URL: http:/www.analog.com/static/imported-files/packages/PKG_PDF/SC70(KS)/KS_3.pdf; ComponentLink4Description: URL Link1; ComponentLink4URL: Product URL:http://www.analog.com/en/special-linear-functions/voltage-references/adr5044/products/product.html
footprint ADI-KS-3_N (SOT23, 3-Leads, Body 2x1.25mm, Pitch 0.65mm, IPC Medium Density)
footprint ADI-KS-3_L (SOT23, 3-Leads, Body 2x1.25mm, Pitch 0.65mm, IPC High Density)
footprint ADI-KS-3_M (SOT23, 3-Leads, Body 2x1.25mm, Pitch 0.65mm, IPC Low Density)
pins: 1 V+ (power), 2 V- (power), 3 NC

## ADR5044BRTZ-R2
designator U?
Precision Micropower Shunt Mode Voltage Reference, 4.096 V Output, Industrial, 3-pin SOT23 (RT-3), Reel; Manufacturer: Analog Devices; PartNumber: ADR5044BRTZ-R2; Ref Out TC (ppm/C): 10; Vout: 4.096V; DatasheetVersion: Rev. B; PackageVersion: 011909-C, 02/2009; PackageReference: RT-3; PackageDescription: 3-Pin Small Outline Transistor Package, Body 2.9 x 1.3 mm, Pitch 0.96 mm; Supplier 1: Digi-Key; Supplier Part Number 1: ADR5044BRTZ-R2TR-ND; Supplier 2: Digi-Key; Supplier Part Number 2: ADR5044BRTZ-R2CT-ND; Supplier 3: Digi-Key; Supplier Part Number 3: ADR5044BRTZ-R2DKR-ND; Supplier 4: Mouser; Supplier Part Number 4: 584-ADR5044BRTZ-R2; Packing: Reel; Operating Temp Range: -40 to 125 degC; Mounting Technology: Surface Mount; Code_JEDEC: TO-236-AB; ComponentLink1Description: Manufacturer URL; ComponentLink1URL: http://www.analog.com/en/index.html; ComponentLink2Description: Datasheet; ComponentLink2URL: http://www.analog.com/static/imported-files/data_sheets/ADR5040_5041_5043_5044_5045.pdf; ComponentLink3Description: Package Specification; ComponentLink3URL: http:/www.analog.com/static/imported-files/packages/PKG_PDF/SOT-23-3 (RT)/RT_3.pdf; ComponentLink4Description: URL Link1; ComponentLink4URL: Product URL:http://www.analog.com/en/special-linear-functions/voltage-references/adr5044/products/product.html
footprint ADI-RT-3_N (SOT23, 3-Leads, Body 2.9x1.3mm, Pitch 0.96mm, IPC Medium Density)
footprint ADI-RT-3_L (SOT23, 3-Leads, Body 2.9x1.3mm, Pitch 0.96mm, IPC High Density)
footprint ADI-RT-3_M (SOT23, 3-Leads, Body 2.9x1.3mm, Pitch 0.96mm, IPC Low Density)
pins: 1 V+ (power), 2 V- (power), 3 NC

## ADR5044BRTZ-REEL7
designator U?
Precision Micropower Shunt Mode Voltage Reference, 4.096 V Output, Industrial, 3-pin SOT23 (RT-3), Reel; Manufacturer: Analog Devices; PartNumber: ADR5044BRTZ-REEL7; Ref Out TC (ppm/C): 10; Vout: 4.096V; DatasheetVersion: Rev. B; PackageVersion: 011909-C, 02/2009; PackageReference: RT-3; PackageDescription: 3-Pin Small Outline Transistor Package, Body 2.9 x 1.3 mm, Pitch 0.96 mm; Supplier 1: Digi-Key; Supplier Part Number 1: ADR5044BRTZ-REEL7-ND; Supplier 2: Mouser; Supplier Part Number 2: 584-ADR5044BRTZ-R7; Packing: Reel; Operating Temp Range: -40 to 125 degC; Mounting Technology: Surface Mount; Code_JEDEC: TO-236-AB; ComponentLink1Description: Manufacturer URL; ComponentLink1URL: http://www.analog.com/en/index.html; ComponentLink2Description: Datasheet; ComponentLink2URL: http://www.analog.com/static/imported-files/data_sheets/ADR5040_5041_5043_5044_5045.pdf; ComponentLink3Description: Package Specification; ComponentLink3URL: http:/www.analog.com/static/imported-files/packages/PKG_PDF/SOT-23-3 (RT)/RT_3.pdf; ComponentLink4Description: URL Link1; ComponentLink4URL: Product URL:http://www.analog.com/en/special-linear-functions/voltage-references/adr5044/products/product.html
footprint ADI-RT-3_N (SOT23, 3-Leads, Body 2.9x1.3mm, Pitch 0.96mm, IPC Medium Density)
footprint ADI-RT-3_L (SOT23, 3-Leads, Body 2.9x1.3mm, Pitch 0.96mm, IPC High Density)
footprint ADI-RT-3_M (SOT23, 3-Leads, Body 2.9x1.3mm, Pitch 0.96mm, IPC Low Density)
pins: 1 V+ (power), 2 V- (power), 3 NC

## ADR5044WARTZ-R7
designator U?
Precision Micropower Shunt Mode Voltage Reference, 4.096 V Output, Automotive, 3-pin SOT23 (RT-3), Reel; Manufacturer: Analog Devices; PartNumber: ADR5044WARTZ-R7; Ref Out TC (ppm/C): 10; Vout: 4.096V; DatasheetVersion: Rev. B; PackageVersion: 011909-C, 02/2009; PackageReference: RT-3; PackageDescription: 3-Pin Small Outline Transistor Package, Body 2.9 x 1.3 mm, Pitch 0.96 mm; Supplier 1: Digi-Key; Supplier Part Number 1: ADR5044WARTZ-R7TR-ND; Supplier 2: Digi-Key; Supplier Part Number 2: ADR5044WARTZ-R7CT-ND; Supplier 3: Digi-Key; Supplier Part Number 3: ADR5044WARTZ-R7DKR-ND; Supplier 4: Mouser; Supplier Part Number 4: 584-ADR5044WARTZ-R7; Packing: Reel; Operating Temp Range: -40 to 125 degC; Mounting Technology: Surface Mount; Code_JEDEC: TO-236-AB; ComponentLink1Description: Manufacturer URL; ComponentLink1URL: http://www.analog.com/en/index.html; ComponentLink2Description: Datasheet; ComponentLink2URL: http://www.analog.com/static/imported-files/data_sheets/ADR5040_5041_5043_5044_5045.pdf; ComponentLink3Description: Package Specification; ComponentLink3URL: http:/www.analog.com/static/imported-files/packages/PKG_PDF/SOT-23-3 (RT)/RT_3.pdf; ComponentLink4Description: URL Link1; ComponentLink4URL: Product URL:http://www.analog.com/en/special-linear-functions/voltage-references/adr5044/products/product.html
footprint ADI-RT-3_N (SOT23, 3-Leads, Body 2.9x1.3mm, Pitch 0.96mm, IPC Medium Density)
footprint ADI-RT-3_L (SOT23, 3-Leads, Body 2.9x1.3mm, Pitch 0.96mm, IPC High Density)
footprint ADI-RT-3_M (SOT23, 3-Leads, Body 2.9x1.3mm, Pitch 0.96mm, IPC Low Density)
pins: 1 V+ (power), 2 V- (power), 3 NC

## ADR5044WBRTZ-R7
designator U?
Precision Micropower Shunt Mode Voltage Reference, 4.096 V Output, Automotive, 3-pin SOT23 (RT-3), Reel; Manufacturer: Analog Devices; PartNumber: ADR5044WBRTZ-R7; Ref Out TC (ppm/C): 10; Vout: 4.096V; DatasheetVersion: Rev. B; PackageVersion: 011909-C, 02/2009; PackageReference: RT-3; PackageDescription: 3-Pin Small Outline Transistor Package, Body 2.9 x 1.3 mm, Pitch 0.96 mm; Supplier 1: Digi-Key; Supplier Part Number 1: ADR5044WBRTZ-R7TR-ND; Supplier 2: Digi-Key; Supplier Part Number 2: ADR5044WBRTZ-R7CT-ND; Supplier 3: Digi-Key; Supplier Part Number 3: ADR5044WBRTZ-R7DKR-ND; Supplier 4: Mouser; Supplier Part Number 4: 584-ADR5044WBRTZ-R7; Packing: Reel; Operating Temp Range: -40 to 125 degC; Mounting Technology: Surface Mount; Code_JEDEC: TO-236-AB; ComponentLink1Description: Manufacturer URL; ComponentLink1URL: http://www.analog.com/en/index.html; ComponentLink2Description: Datasheet; ComponentLink2URL: http://www.analog.com/static/imported-files/data_sheets/ADR5040_5041_5043_5044_5045.pdf; ComponentLink3Description: Package Specification; ComponentLink3URL: http:/www.analog.com/static/imported-files/packages/PKG_PDF/SOT-23-3 (RT)/RT_3.pdf; ComponentLink4Description: URL Link1; ComponentLink4URL: Product URL:http://www.analog.com/en/special-linear-functions/voltage-references/adr5044/products/product.html
footprint ADI-RT-3_N (SOT23, 3-Leads, Body 2.9x1.3mm, Pitch 0.96mm, IPC Medium Density)
footprint ADI-RT-3_L (SOT23, 3-Leads, Body 2.9x1.3mm, Pitch 0.96mm, IPC High Density)
footprint ADI-RT-3_M (SOT23, 3-Leads, Body 2.9x1.3mm, Pitch 0.96mm, IPC Low Density)
pins: 1 V+ (power), 2 V- (power), 3 NC

## ADR5045AKSZ-R2
designator U?
Precision Micropower Shunt Mode Voltage Reference, 5 V Output, Industrial, 3-pin SOT23 (KS-3), Reel; Manufacturer: Analog Devices; PartNumber: ADR5045AKSZ-R2; Ref Out TC (ppm/C): 10; Vout: 5V; DatasheetVersion: Rev. B; PackageVersion: 072809-A, 07/2009; PackageReference: KS-3; PackageDescription: 3-Pin Thin Shrink Small Outline Transistor Package, Body 2 x 1.25 mm, Pitch 0.65 mm; Supplier 1: Digi-Key; Supplier Part Number 1: ADR5045AKSZ-R2-ND; Supplier 2: Newark; Supplier Part Number 2: 34M4909; Supplier 3: Mouser; Supplier Part Number 3: 584-ADR5045AKSZ-R2; Packing: Reel; Operating Temp Range: -40 to 125 degC; Mounting Technology: Surface Mount; ComponentLink1Description: Manufacturer URL; ComponentLink1URL: http://www.analog.com/en/index.html; ComponentLink2Description: Datasheet; ComponentLink2URL: http://www.analog.com/static/imported-files/data_sheets/ADR5040_5041_5043_5044_5045.pdf; ComponentLink3Description: Package Specification; ComponentLink3URL: http:/www.analog.com/static/imported-files/packages/PKG_PDF/SC70(KS)/KS_3.pdf; ComponentLink4Description: URL Link1; ComponentLink4URL: Product URL:http://www.analog.com/en/special-linear-functions/voltage-references/adr5045/products/product.html
footprint ADI-KS-3_N (SOT23, 3-Leads, Body 2x1.25mm, Pitch 0.65mm, IPC Medium Density)
footprint ADI-KS-3_L (SOT23, 3-Leads, Body 2x1.25mm, Pitch 0.65mm, IPC High Density)
footprint ADI-KS-3_M (SOT23, 3-Leads, Body 2x1.25mm, Pitch 0.65mm, IPC Low Density)
pins: 1 V+ (power), 2 V- (power), 3 NC

## ADR5045AKSZ-REEL
designator U?
Precision Micropower Shunt Mode Voltage Reference, 5 V Output, Industrial, 3-pin SOT23 (KS-3), Reel; Manufacturer: Analog Devices; PartNumber: ADR5045AKSZ-REEL; Ref Out TC (ppm/C): 10; Vout: 5V; DatasheetVersion: Rev. B; PackageVersion: 072809-A, 07/2009; PackageReference: KS-3; PackageDescription: 3-Pin Thin Shrink Small Outline Transistor Package, Body 2 x 1.25 mm, Pitch 0.65 mm; Supplier 1: Digi-Key; Supplier Part Number 1: ADR5045AKSZ-REEL-ND; Supplier 2: Newark; Supplier Part Number 2: 34M4907; Supplier 3: Mouser; Supplier Part Number 3: 584-ADR5045AKSZ-R; Packing: Reel; Operating Temp Range: -40 to 125 degC; Mounting Technology: Surface Mount; ComponentLink1Description: Manufacturer URL; ComponentLink1URL: http://www.analog.com/en/index.html; ComponentLink2Description: Datasheet; ComponentLink2URL: http://www.analog.com/static/imported-files/data_sheets/ADR5040_5041_5043_5044_5045.pdf; ComponentLink3Description: Package Specification; ComponentLink3URL: http:/www.analog.com/static/imported-files/packages/PKG_PDF/SC70(KS)/KS_3.pdf; ComponentLink4Description: URL Link1; ComponentLink4URL: Product URL:http://www.analog.com/en/special-linear-functions/voltage-references/adr5045/products/product.html
footprint ADI-KS-3_N (SOT23, 3-Leads, Body 2x1.25mm, Pitch 0.65mm, IPC Medium Density)
footprint ADI-KS-3_L (SOT23, 3-Leads, Body 2x1.25mm, Pitch 0.65mm, IPC High Density)
footprint ADI-KS-3_M (SOT23, 3-Leads, Body 2x1.25mm, Pitch 0.65mm, IPC Low Density)
pins: 1 V+ (power), 2 V- (power), 3 NC

## ADR5045AKSZ-REEL7
designator U?
Precision Micropower Shunt Mode Voltage Reference, 5 V Output, Industrial, 3-pin SOT23 (KS-3), Reel; Manufacturer: Analog Devices; PartNumber: ADR5045AKSZ-REEL7; Ref Out TC (ppm/C): 10; Vout: 5V; DatasheetVersion: Rev. B; PackageVersion: 072809-A, 07/2009; PackageReference: KS-3; PackageDescription: 3-Pin Thin Shrink Small Outline Transistor Package, Body 2 x 1.25 mm, Pitch 0.65 mm; Supplier 1: Digi-Key; Supplier Part Number 1: ADR5045AKSZ-REEL7TR-ND; Supplier 2: Digi-Key; Supplier Part Number 2: ADR5045AKSZ-REEL7CT-ND; Supplier 3: Digi-Key; Supplier Part Number 3: ADR5045AKSZ-REEL7DKR-ND; Supplier 4: Newark; Supplier Part Number 4: 34M4908; Supplier 5: Mouser; Supplier Part Number 5: 584-ADR5045AKSZ-R7; Packing: Reel; Operating Temp Range: -40 to 125 degC; Mounting Technology: Surface Mount; ComponentLink1Description: Manufacturer URL; ComponentLink1URL: http://www.analog.com/en/index.html; ComponentLink2Description: Datasheet; ComponentLink2URL: http://www.analog.com/static/imported-files/data_sheets/ADR5040_5041_5043_5044_5045.pdf; ComponentLink3Description: Package Specification; ComponentLink3URL: http:/www.analog.com/static/imported-files/packages/PKG_PDF/SC70(KS)/KS_3.pdf; ComponentLink4Description: URL Link1; ComponentLink4URL: Product URL:http://www.analog.com/en/special-linear-functions/voltage-references/adr5045/products/product.html
footprint ADI-KS-3_N (SOT23, 3-Leads, Body 2x1.25mm, Pitch 0.65mm, IPC Medium Density)
footprint ADI-KS-3_L (SOT23, 3-Leads, Body 2x1.25mm, Pitch 0.65mm, IPC High Density)
footprint ADI-KS-3_M (SOT23, 3-Leads, Body 2x1.25mm, Pitch 0.65mm, IPC Low Density)
pins: 1 V+ (power), 2 V- (power), 3 NC

## ADR5045ARTZ-R2
designator U?
Precision Micropower Shunt Mode Voltage Reference, 5 V Output, Industrial, 3-pin SOT23 (RT-3), Reel; Manufacturer: Analog Devices; PartNumber: ADR5045ARTZ-R2; Ref Out TC (ppm/C): 10; Vout: 5V; DatasheetVersion: Rev. B; PackageVersion: 011909-C, 02/2009; PackageReference: RT-3; PackageDescription: 3-Pin Small Outline Transistor Package, Body 2.9 x 1.3 mm, Pitch 0.96 mm; Supplier 1: Digi-Key; Supplier Part Number 1: ADR5045ARTZ-R2TR-ND; Supplier 2: Digi-Key; Supplier Part Number 2: ADR5045ARTZ-R2CT-ND; Supplier 3: Digi-Key; Supplier Part Number 3: ADR5045ARTZ-R2DKR-ND; Supplier 4: Mouser; Supplier Part Number 4: 584-ADR5045ARTZ-R2; Packing: Reel; Operating Temp Range: -40 to 125 degC; Mounting Technology: Surface Mount; Code_JEDEC: TO-236-AB; ComponentLink1Description: Manufacturer URL; ComponentLink1URL: http://www.analog.com/en/index.html; ComponentLink2Description: Datasheet; ComponentLink2URL: http://www.analog.com/static/imported-files/data_sheets/ADR5040_5041_5043_5044_5045.pdf; ComponentLink3Description: Package Specification; ComponentLink3URL: http:/www.analog.com/static/imported-files/packages/PKG_PDF/SOT-23-3 (RT)/RT_3.pdf; ComponentLink4Description: URL Link1; ComponentLink4URL: Product URL:http://www.analog.com/en/special-linear-functions/voltage-references/adr5045/products/product.html
footprint ADI-RT-3_N (SOT23, 3-Leads, Body 2.9x1.3mm, Pitch 0.96mm, IPC Medium Density)
footprint ADI-RT-3_L (SOT23, 3-Leads, Body 2.9x1.3mm, Pitch 0.96mm, IPC High Density)
footprint ADI-RT-3_M (SOT23, 3-Leads, Body 2.9x1.3mm, Pitch 0.96mm, IPC Low Density)
pins: 1 V+ (power), 2 V- (power), 3 NC

## ADR5045ARTZ-REEL
designator U?
Precision Micropower Shunt Mode Voltage Reference, 5 V Output, Industrial, 3-pin SOT23 (RT-3), Reel; Manufacturer: Analog Devices; PartNumber: ADR5045ARTZ-REEL; Ref Out TC (ppm/C): 10; Vout: 5V; DatasheetVersion: Rev. B; PackageVersion: 011909-C, 02/2009; PackageReference: RT-3; PackageDescription: 3-Pin Small Outline Transistor Package, Body 2.9 x 1.3 mm, Pitch 0.96 mm; Supplier 1: Digi-Key; Supplier Part Number 1: ADR5045ARTZ-REEL-ND; Supplier 2: Mouser; Supplier Part Number 2: 584-ADR5045ARTZ-R; Packing: Reel; Operating Temp Range: -40 to 125 degC; Mounting Technology: Surface Mount; Code_JEDEC: TO-236-AB; ComponentLink1Description: Manufacturer URL; ComponentLink1URL: http://www.analog.com/en/index.html; ComponentLink2Description: Datasheet; ComponentLink2URL: http://www.analog.com/static/imported-files/data_sheets/ADR5040_5041_5043_5044_5045.pdf; ComponentLink3Description: Package Specification; ComponentLink3URL: http:/www.analog.com/static/imported-files/packages/PKG_PDF/SOT-23-3 (RT)/RT_3.pdf; ComponentLink4Description: URL Link1; ComponentLink4URL: Product URL:http://www.analog.com/en/special-linear-functions/voltage-references/adr5045/products/product.html
footprint ADI-RT-3_N (SOT23, 3-Leads, Body 2.9x1.3mm, Pitch 0.96mm, IPC Medium Density)
footprint ADI-RT-3_L (SOT23, 3-Leads, Body 2.9x1.3mm, Pitch 0.96mm, IPC High Density)
footprint ADI-RT-3_M (SOT23, 3-Leads, Body 2.9x1.3mm, Pitch 0.96mm, IPC Low Density)
pins: 1 V+ (power), 2 V- (power), 3 NC

## ADR5045ARTZ-REEL7
designator U?
Precision Micropower Shunt Mode Voltage Reference, 5 V Output, Industrial, 3-pin SOT23 (RT-3), Reel; Manufacturer: Analog Devices; PartNumber: ADR5045ARTZ-REEL7; Ref Out TC (ppm/C): 10; Vout: 5V; DatasheetVersion: Rev. B; PackageVersion: 011909-C, 02/2009; PackageReference: RT-3; PackageDescription: 3-Pin Small Outline Transistor Package, Body 2.9 x 1.3 mm, Pitch 0.96 mm; Supplier 1: Digi-Key; Supplier Part Number 1: ADR5045ARTZ-REEL7-ND; Supplier 2: Mouser; Supplier Part Number 2: 584-ADR5045ARTZ-R7; Packing: Reel; Operating Temp Range: -40 to 125 degC; Mounting Technology: Surface Mount; Code_JEDEC: TO-236-AB; ComponentLink1Description: Manufacturer URL; ComponentLink1URL: http://www.analog.com/en/index.html; ComponentLink2Description: Datasheet; ComponentLink2URL: http://www.analog.com/static/imported-files/data_sheets/ADR5040_5041_5043_5044_5045.pdf; ComponentLink3Description: Package Specification; ComponentLink3URL: http:/www.analog.com/static/imported-files/packages/PKG_PDF/SOT-23-3 (RT)/RT_3.pdf; ComponentLink4Description: URL Link1; ComponentLink4URL: Product URL:http://www.analog.com/en/special-linear-functions/voltage-references/adr5045/products/product.html
footprint ADI-RT-3_N (SOT23, 3-Leads, Body 2.9x1.3mm, Pitch 0.96mm, IPC Medium Density)
footprint ADI-RT-3_L (SOT23, 3-Leads, Body 2.9x1.3mm, Pitch 0.96mm, IPC High Density)
footprint ADI-RT-3_M (SOT23, 3-Leads, Body 2.9x1.3mm, Pitch 0.96mm, IPC Low Density)
pins: 1 V+ (power), 2 V- (power), 3 NC